# EAGLE library part C8051F206 (library wheat)
IC, MICROCONTROLLER, C8051F206 CYGNAL TQFP48
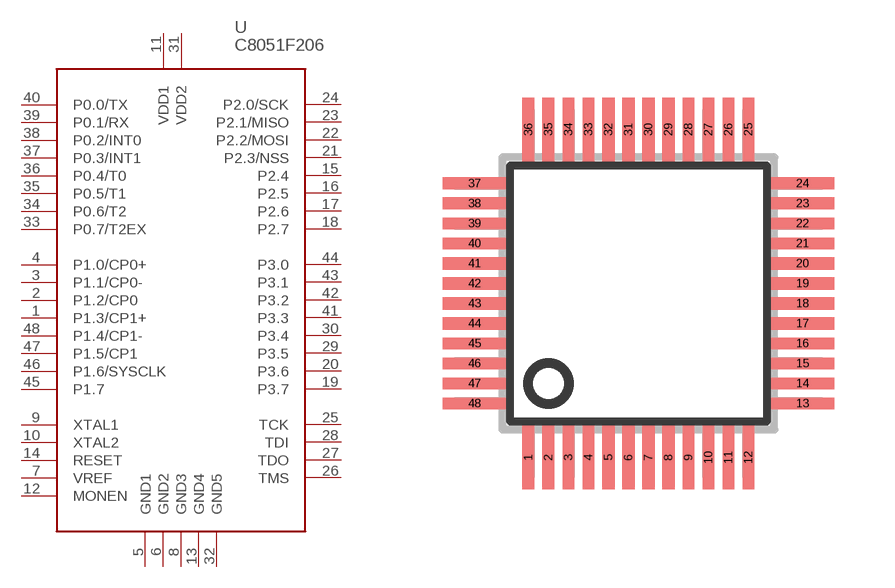
[diagram p23: symbol with the pads of TQFP48; footprint TQFP48]

Designator prefix U

## C8051F206  [TQFP48]
1  P1.3/CP1+
2  P1.2/CP0
3  P1.1/CP0-
4  P1.0/CP0+
5  GND1  pwr
6  GND2  pwr
7  VREF  in
8  GND3  pwr
9  XTAL1
10  XTAL2
11  VDD1  pwr
12  MONEN  in
13  GND4  pwr
14  RESET
15  P2.4
16  P2.5
17  P2.6
18  P2.7
19  P3.7
20  P3.6
21  P2.3/NSS
22  P2.2/MOSI
23  P2.1/MISO
24  P2.0/SCK
25  TCK
26  TMS
27  TDO
28  TDI
29  P3.5
30  P3.4
31  VDD2  pwr
32  GND5  pwr
33  P0.7/T2EX
34  P0.6/T2
35  P0.5/T1
36  P0.4/T0
37  P0.3/INT1
38  P0.2/INT0
39  P0.1/RX
40  P0.0/TX
41  P3.3
42  P3.2
43  P3.1
44  P3.0
45  P1.7
46  P1.6/SYSCLK
47  P1.5/CP1
48  P1.4/CP1-

## Footprint TQFP48 (pad centres in mm)
TQFP48, .5MM LS
smd 0.3 x 1.6: 1 -2.75,-4.1; 2 -2.25,-4.1; 3 -1.75,-4.1; 4 -1.25,-4.1; 5 -0.75,-4.1; 6 -0.25,-4.1; 7 0.25,-4.1; 8 0.75,-4.1; 9 1.25,-4.1; 10 1.75,-4.1; 11 2.25,-4.1; 12 2.75,-4.1; 25 2.75,4.1; 26 2.25,4.1; 27 1.75,4.1; 28 1.25,4.1; 29 0.75,4.1; 30 0.25,4.1; 31 -0.25,4.1; 32 -0.75,4.1; 33 -1.25,4.1; 34 -1.75,4.1; 35 -2.25,4.1; 36 -2.75,4.1
smd 1.6 x 0.3: 13 4.1,-2.75; 14 4.1,-2.25; 15 4.1,-1.75; 16 4.1,-1.25; 17 4.1,-0.75; 18 4.1,-0.25; 19 4.1,0.25; 20 4.1,0.75; 21 4.1,1.25; 22 4.1,1.75; 23 4.1,2.25; 24 4.1,2.75; 37 -4.1,2.75; 38 -4.1,2.25; 39 -4.1,1.75; 40 -4.1,1.25; 41 -4.1,0.75; 42 -4.1,0.25; 43 -4.1,-0.25; 44 -4.1,-0.75; 45 -4.1,-1.25; 46 -4.1,-1.75; 47 -4.1,-2.25; 48 -4.1,-2.75